# EAGLE library part ATTINY25/45/85-DIP (library ATMEL-ATTINY25-45-85)
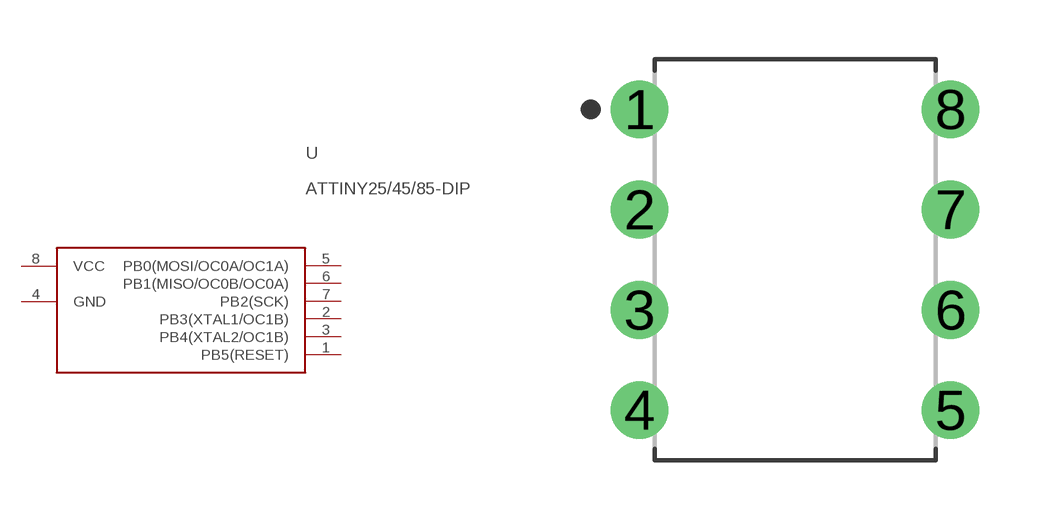
[diagram p0: symbol with the pads of DIP8; footprint DIP8]

Designator prefix U

## ATTINY25/45/85-DIP  [DIP8]
1  PB5(RESET)
2  PB3(XTAL1/OC1B)
3  PB4(XTAL2/OC1B)
4  GND  pwr
5  PB0(MOSI/OC0A/OC1A)
6  PB1(MISO/OC0B/OC0A)
7  PB2(SCK)
8  VCC  pwr

## Footprint DIP8 (pad centres in mm)
8-DIP, 2.54 mm (0.10 in) pitch, 7.87 mm (0.31 in) span, 9.59 X 6.60 X 5.33 mm body 8-pin DIP package with 2.54 mm (0.10 in) pitch, 7.87 mm (0.31 in) span with body size 9.59 X 6.60 X 5.33 mm
drill 0.862 pad 1.462: 1 -3.937,3.81; 2 -3.937,1.27; 3 -3.937,-1.27; 4 -3.937,-3.81; 5 3.937,-3.81; 6 3.937,-1.27; 7 3.937,1.27; 8 3.937,3.81